# Altium footprint library Vishay Lite-On Discrete Diode.PcbLib: 10 footprints
Each footprint in its own frame and in the unit in brackets; x right, y up, seen from the top. Pads: shape width x height; smd on the part's side, far side on the other; paste and mask are expansions set on the pad; w line width, h text height; cw(c..) or ccw(c..) is an arc to the next point about the centre after c.
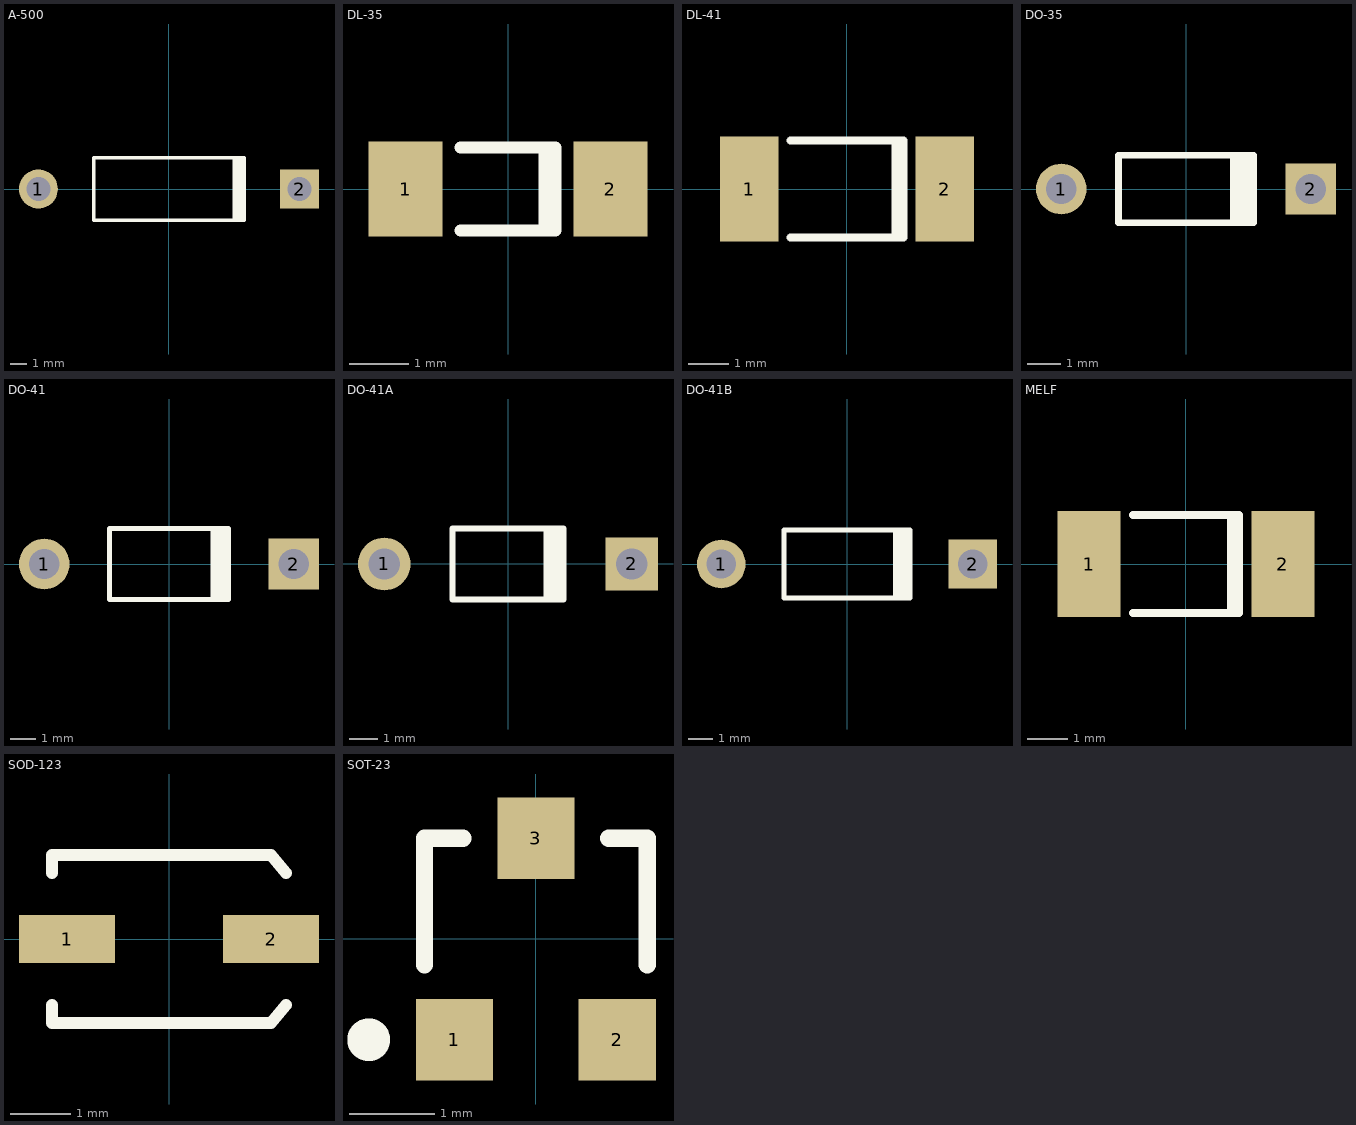
[diagram p0: the footprints below, top view; thin cyan lines are the x and y axes]

## A-500 [mm] "Diode, Axial; Body 8.9 x 3.7 mm (LxDia. max), Lead Dia. 1.09 mm (max)"
height 3.7
pads (2):
  round 2.3 hole 1.4: 1(-7.725,0)
  rect 2.3x2.3 hole 1.4: 2(7.725,0)
Top Overlay:
  rectangle: 3.75,-1.85 4.55,1.85
  lines w0.2: 4.45,-1.85 -4.45,-1.85 -4.45,1.85 4.45,1.85

## DL-35 [mm] "Metal Electrode Face (MELF) Diode; Body 3.5 x 1.5 mm (LxDia)"
height 1.5
pads (2):
  rect 1.25x1.6 smd: 1(-1.725,0) 2(1.725,0)
Top Overlay:
  lines w0.2: -0.8,-0.7 0.8,-0.7 0.8,0.7 -0.8,0.7 ; 0.61,-0.7 0.61,0.7

## DL-41 [mm] "Metal Electrode Face (MELF) Diode; Body 5 x 2.4 mm (LxDia)"
height 2.5
pads (2):
  rect 1.45x2.6 smd: 1(-2.425,0) 2(2.425,0)
Top Overlay:
  lines w0.2: -1.4,-1.2 1.4,-1.2 1.4,1.2 -1.4,1.2 ; 1.21,-1.2 1.21,1.2

## DO-35 [mm] "Diode, Axial; Body 4 x 2 mm (LxDia. max), Lead Dia. 0.6 mm (max)"
height 2
pads (2):
  round 1.5 hole 0.9: 1(-3.7,0)
  rect 1.5x1.5 hole 0.9: 2(3.7,0)
Top Overlay:
  rectangle: 1.3,-1 2.1,1
  lines w0.2: 2,-1 -2,-1 -2,1 2,1

## DO-41 [mm] "Diode, Axial; Body 4.7 x 2.7 mm (LxDia. max), Lead Dia. 0.86 mm (max)"
height 2.8
pads (2):
  round 2 hole 1.2: 1(-4.94,0)
  rect 2x2 hole 1.2: 2(4.94,0)
Top Overlay:
  rectangle: 1.65,-1.4 2.45,1.4
  lines w0.2: 2.35,-1.4 -2.35,-1.4 -2.35,1.4 2.35,1.4

## DO-41A [mm] "Diode, Axial; Body 3.9 x 2.5 mm (LxDia. max), Lead Dia. 0.8 mm (max)"
height 2.5
pads (2):
  round 1.85 hole 1.1: 1(-4.35,0)
  rect 1.85x1.85 hole 1.1: 2(4.35,0)
Top Overlay:
  rectangle: 1.25,-1.25 2.05,1.25
  lines w0.2: 1.95,-1.25 -1.95,-1.25 -1.95,1.25 1.95,1.25

## DO-41B [mm] "Diode, Axial; Body 5.2 x 2.7 mm (LxDia. max), Lead Dia. 0.86 mm (max)"
height 2.7
pads (2):
  round 2 hole 1.2: 1(-5.18,0)
  rect 2x2 hole 1.2: 2(5.18,0)
Top Overlay:
  rectangle: 1.9,-1.4 2.7,1.4
  lines w0.2: 2.6,-1.4 -2.6,-1.4 -2.6,1.4 2.6,1.4

## MELF [mm] "Metal Electrode Face (MELF) Diode; Body 5 x 2.5 mm (LxDia)"
height 2.5
pads (2):
  rect 1.55x2.6 smd: 1(-2.375,0) 2(2.375,0)
Top Overlay:
  lines w0.2: -1.3,-1.2 1.3,-1.2 1.3,1.2 -1.3,1.2 ; 1.11,-1.2 1.11,1.2

## SOD-123 [mm] "SOD-123; 2 Leads; Body 2.7 x 1.6 mm, (LxW)"
height 1.35
pads (2):
  rect 1.6x0.8 smd: 1(-1.7,0) 2(1.7,0)
Top Overlay:
  lines w0.2: -1.95,-1.098 -1.95,-1.4 1.7,-1.4 1.95,-1.098 ; -1.95,1.098 -1.95,1.4 1.7,1.4 1.95,1.098

## SOT-23 [mm] "SOT-23; 3 Leads; Body 3.1 x 2.5 mm, inc. leads (LxW max)"
height 1.1
pads (3):
  rect 0.9x0.95 smd: 1(-0.95,-1.175) 2(0.95,-1.175) 3(0,1.175)
Top Overlay:
  circle w0.25: c-1.95,-1.175 r0.125
  lines w0.2: -1.3,-0.3 -1.3,1.175 -0.85,1.175 ; 0.85,1.175 1.3,1.175 1.3,-0.3